# Altium footprint library PCB_ActiveLED.PcbLib: 16 footprints
Each footprint in its own frame and in the unit in brackets; x right, y up, seen from the top. Pads: shape width x height; smd on the part's side, far side on the other; paste and mask are expansions set on the pad; w line width, h text height; cw(c..) or ccw(c..) is an arc to the next point about the centre after c.
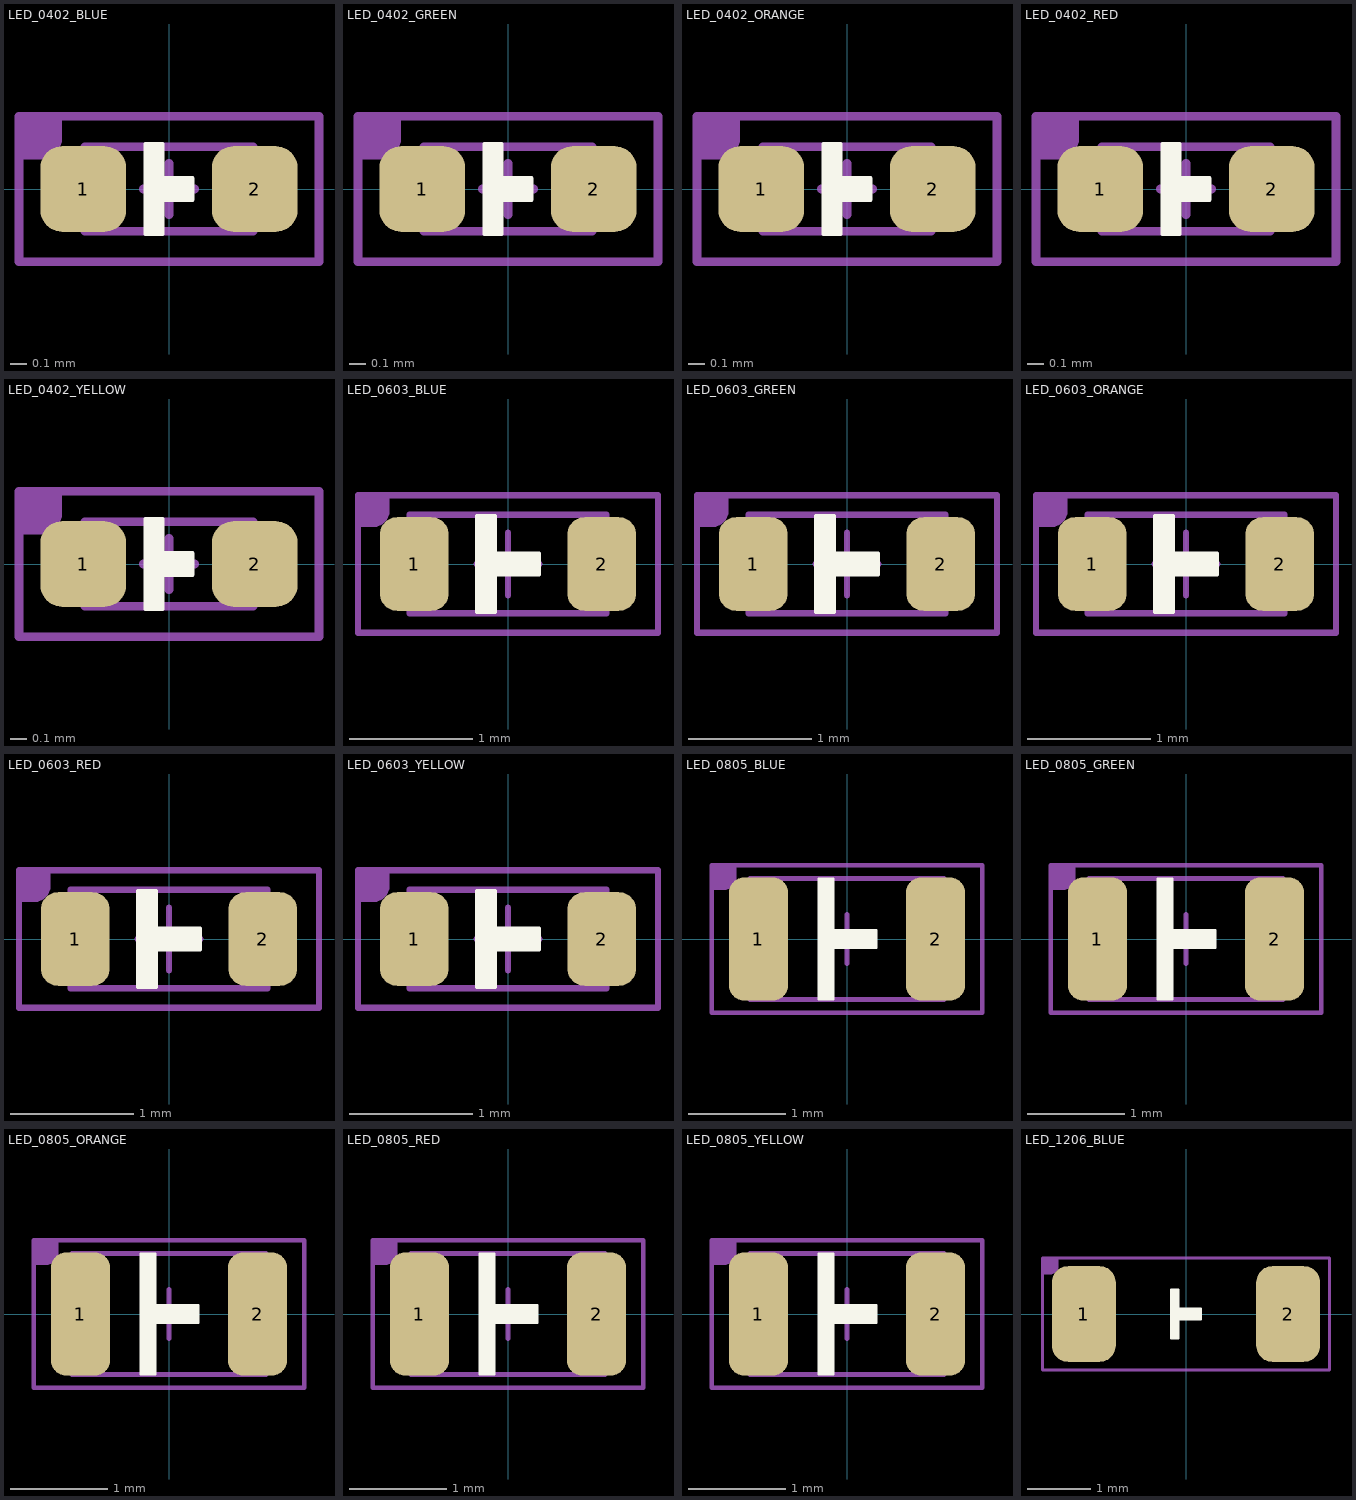
[diagram p0: the footprints below, top view; thin cyan lines are the x and y axes]

## LED_0402_BLUE [mil]
height 31.5
pads (2):
  rrect50% 20x20 smd: 1(-20,0) 2(20,0)
Top Overlay:
  region: -5.5,10.5 -1.5,10.5 -1.5,2.5 5.5,2.5 5.5,-2.5 -1.5,-2.5 -1.5,-10.5 -5.5,-10.5
  lines w1: -5.5,-10.5 -1.5,-10.5 -1.5,-2.5 5.5,-2.5 5.5,2.5 -1.5,2.5 -1.5,10.5 -5.5,10.5 -5.5,-10.5
Mechanical 13:
  lines w2: -6,0 6,0 ; 0,-6 0,6 ; -19.69,-9.84 -19.69,9.84 19.68,9.84 19.68,-9.84 -19.69,-9.84
Mechanical 14:
  region: -35,17 -25,17 -25,12 -25,11.01 -25.76,9.17 -27.17,7.76 -29.01,7 -30,7 -35,7
  lines w2: -35,-17 35,-17 35,17 -35,17 -35,-17
  text ".Designator" at -25,-10 h20
3D body "User Library-led_0402LED0402 blue_.STEP": height 17.72, standoff 0, extent -19.88,-9.84 19.88,9.85

## LED_0402_GREEN [mil]
height 31.5
pads (2):
  rrect50% 20x20 smd: 1(-20,0) 2(20,0)
Top Overlay:
  region: -5.5,10.5 -1.5,10.5 -1.5,2.5 5.5,2.5 5.5,-2.5 -1.5,-2.5 -1.5,-10.5 -5.5,-10.5
  lines w1: -5.5,-10.5 -5.5,10.5 -1.5,10.5 -1.5,2.5 5.5,2.5 5.5,-2.5 -1.5,-2.5 -1.5,-10.5 -5.5,-10.5
Mechanical 13:
  lines w2: -6,0 6,0 ; 0,-6 0,6 ; -19.69,-9.84 19.68,-9.84 19.68,9.84 -19.69,9.84 -19.69,-9.84
Mechanical 14:
  region: -35,17 -25,17 -25,12 -25,11.01 -25.76,9.17 -27.17,7.76 -29.01,7 -30,7 -35,7
  lines w2: -35,-17 35,-17 35,17 -35,17 -35,-17
  text ".Designator" at -25,-10 h20
3D body "User Library-led_0402LED0402 green_.STEP": height 17.72, standoff 0, extent -19.88,-9.84 19.88,9.85

## LED_0402_ORANGE [mil]
height 31.5
pads (2):
  rrect50% 20x20 smd: 1(-20,0) 2(20,0)
Top Overlay:
  region: -5.5,10.5 -1.5,10.5 -1.5,2.5 5.5,2.5 5.5,-2.5 -1.5,-2.5 -1.5,-10.5 -5.5,-10.5
  lines w1: -5.5,-10.5 -5.5,10.5 -1.5,10.5 -1.5,2.5 5.5,2.5 5.5,-2.5 -1.5,-2.5 -1.5,-10.5 -5.5,-10.5
Mechanical 13:
  lines w2: -6,0 6,0 ; 0,-6 0,6 ; -19.69,-9.84 19.68,-9.84 19.68,9.84 -19.69,9.84 -19.69,-9.84
Mechanical 14:
  region: -35,17 -25,17 -25,12 -25,11.01 -25.76,9.17 -27.17,7.76 -29.01,7 -30,7 -35,7
  lines w2: -35,-17 35,-17 35,17 -35,17 -35,-17
  text ".Designator" at -25,-10 h20
3D body "User Library-led_0402LED0402 orange_.STEP": height 17.72, standoff 0, extent -19.88,-9.84 19.88,9.85

## LED_0402_RED [mil]
height 31.5
pads (2):
  rrect50% 20x20 smd: 1(-20,0) 2(20,0)
Top Overlay:
  region: -5.5,10.5 -1.5,10.5 -1.5,2.5 5.5,2.5 5.5,-2.5 -1.5,-2.5 -1.5,-10.5 -5.5,-10.5
  lines w1: -5.5,-10.5 -5.5,10.5 -1.5,10.5 -1.5,2.5 5.5,2.5 5.5,-2.5 -1.5,-2.5 -1.5,-10.5 -5.5,-10.5
Mechanical 13:
  lines w2: -6,0 6,0 ; 0,-6 0,6 ; -19.69,-9.84 19.68,-9.84 19.68,9.84 -19.69,9.84 -19.69,-9.84
Mechanical 14:
  region: -35,17 -25,17 -25,12 -25,11.01 -25.76,9.17 -27.17,7.76 -29.01,7 -30,7 -35,7
  lines w2: -35,-17 35,-17 35,17 -35,17 -35,-17
  text ".Designator" at -25,-10 h20
3D body "User Library-led_0402LED0402 red_.STEP": height 17.72, standoff 0, extent -19.88,-9.84 19.89,9.85

## LED_0402_YELLOW [mil]
height 31.5
pads (2):
  rrect50% 20x20 smd: 1(-20,0) 2(20,0)
Top Overlay:
  region: -5.5,10.5 -1.5,10.5 -1.5,2.5 5.5,2.5 5.5,-2.5 -1.5,-2.5 -1.5,-10.5 -5.5,-10.5
  lines w1: -5.5,-10.5 -5.5,10.5 -1.5,10.5 -1.5,2.5 5.5,2.5 5.5,-2.5 -1.5,-2.5 -1.5,-10.5 -5.5,-10.5
Mechanical 13:
  lines w2: -6,0 6,0 ; 0,-6 0,6 ; -19.69,-9.84 19.68,-9.84 19.68,9.84 -19.69,9.84 -19.69,-9.84
Mechanical 14:
  region: -35,17 -25,17 -25,12 -25,11.01 -25.76,9.17 -27.17,7.76 -29.01,7 -30,7 -35,7
  lines w2: -35,-17 -35,17 35,17 35,-17 -35,-17
  text ".Designator" at -25,-10 h20
3D body "User Library-led_0402LED0402 yellow_.STEP": height 17.72, standoff 0, extent -19.88,-9.84 19.89,9.85

## LED_0603_BLUE [mil]
height 31.5
pads (2):
  rrect50% 22x30 smd: 1(-30,0) 2(30,0)
Top Overlay:
  region: -10,15.5 -4,15.5 -4,3.5 10,3.5 10,-3.5 -4,-3.5 -4,-15.5 -10,-15.5
  lines w1: -10,-15.5 -4,-15.5 -4,-3.5 10,-3.5 10,3.5 -4,3.5 -4,15.5 -10,15.5 -10,-15.5
Mechanical 13:
  lines w2: -10,0 10,0 ; 0,-10 0,10 ; -31.5,-15.75 31.5,-15.75 31.5,15.75 -31.5,15.75 -31.5,-15.75
Mechanical 14:
  region: -48,22 -38,22 -38,17 -38,16.01 -38.76,14.17 -40.17,12.76 -42.01,12 -43,12 -48,12
  lines w2: -48,-22 -48,22 48,22 48,-22 -48,-22
  text ".Designator" at -35,-15 h30
3D body "User Library-led_0603LED0603 blue.STEP": height 23.62, standoff 0, extent -31.89,-15.74 31.89,15.75

## LED_0603_GREEN [mil]
height 31.5
pads (2):
  rrect50% 22x30 smd: 1(-30,0) 2(30,0)
Top Overlay:
  region: -10,15.5 -4,15.5 -4,3.5 10,3.5 10,-3.5 -4,-3.5 -4,-15.5 -10,-15.5
  lines w1: -10,-15.5 -10,15.5 -4,15.5 -4,3.5 10,3.5 10,-3.5 -4,-3.5 -4,-15.5 -10,-15.5
Mechanical 13:
  lines w2: -10,0 10,0 ; 0,-10 0,10 ; -31.5,-15.75 -31.5,15.75 31.5,15.75 31.5,-15.75 -31.5,-15.75
Mechanical 14:
  region: -48,22 -38,22 -38,17 -38,16.01 -38.76,14.17 -40.17,12.76 -42.01,12 -43,12 -48,12
  lines w2: -48,-22 48,-22 48,22 -48,22 -48,-22
  text ".Designator" at -35,-15 h30
3D body "User Library-led_0603LED0603 green.STEP": height 23.62, standoff 0, extent -31.89,-15.74 31.89,15.75

## LED_0603_ORANGE [mil]
height 31.5
pads (2):
  rrect50% 22x30 smd: 1(-30,0) 2(30,0)
Top Overlay:
  region: -10,15.5 -4,15.5 -4,3.5 10,3.5 10,-3.5 -4,-3.5 -4,-15.5 -10,-15.5
  lines w1: -10,-15.5 -4,-15.5 -4,-3.5 10,-3.5 10,3.5 -4,3.5 -4,15.5 -10,15.5 -10,-15.5
Mechanical 13:
  lines w2: -10,0 10,0 ; 0,-10 0,10 ; -31.5,-15.75 -31.5,15.75 31.5,15.75 31.5,-15.75 -31.5,-15.75
Mechanical 14:
  region: -48,22 -38,22 -38,17 -38,16.01 -38.76,14.17 -40.17,12.76 -42.01,12 -43,12 -48,12
  lines w2: -48,-22 48,-22 48,22 -48,22 -48,-22
  text ".Designator" at -35,-15 h30
3D body "User Library-led_0603LED0603 orange_.STEP": height 23.62, standoff 0, extent -31.89,-15.74 31.89,15.75

## LED_0603_RED [mil]
height 31.5
pads (2):
  rrect50% 22x30 smd: 1(-30,0) 2(30,0)
Top Overlay:
  region: -10,15.5 -4,15.5 -4,3.5 10,3.5 10,-3.5 -4,-3.5 -4,-15.5 -10,-15.5
  lines w1: -10,-15.5 -10,15.5 -4,15.5 -4,3.5 10,3.5 10,-3.5 -4,-3.5 -4,-15.5 -10,-15.5
Mechanical 13:
  lines w2: -10,0 10,0 ; 0,-10 0,10 ; -31.5,-15.75 31.5,-15.75 31.5,15.75 -31.5,15.75 -31.5,-15.75
Mechanical 14:
  region: -48,22 -38,22 -38,17 -38,16.01 -38.76,14.17 -40.17,12.76 -42.01,12 -43,12 -48,12
  lines w2: -48,-22 -48,22 48,22 48,-22 -48,-22
  text ".Designator" at -35,-15 h30
3D body "User Library-led_0603LED0603 red.STEP": height 23.62, standoff 0, extent -31.89,-15.74 31.89,15.75

## LED_0603_YELLOW [mil]
height 31.5
pads (2):
  rrect50% 22x30 smd: 1(-30,0) 2(30,0)
Top Overlay:
  region: -10,15.5 -4,15.5 -4,3.5 10,3.5 10,-3.5 -4,-3.5 -4,-15.5 -10,-15.5
  lines w1: -10,-15.5 -10,15.5 -4,15.5 -4,3.5 10,3.5 10,-3.5 -4,-3.5 -4,-15.5 -10,-15.5
Mechanical 13:
  lines w2: -10,0 10,0 ; 0,-10 0,10 ; -31.5,-15.75 -31.5,15.75 31.5,15.75 31.5,-15.75 -31.5,-15.75
Mechanical 14:
  region: -48,22 -38,22 -38,17 -38,16.01 -38.76,14.17 -40.17,12.76 -42.01,12 -43,12 -48,12
  lines w2: -48,-22 -48,22 48,22 48,-22 -48,-22
  text ".Designator" at -35,-15 h30
3D body "User Library-led_0603LED0603 yellow_.STEP": height 23.62, standoff 0, extent -31.89,-15.74 31.89,15.75

## LED_0805_BLUE [mil]
height 47.24
pads (2):
  rrect50% 24x50 smd: 1(-36,0) 2(36,0)
Top Overlay:
  region: -11.5,24.5 -5.5,24.5 -5.5,3.5 12,3.5 12,-3.5 -5.5,-3.5 -5.5,-24.5 -11.5,-24.5
  lines w1: -11.5,-24.5 -5.5,-24.5 -5.5,-3.5 12,-3.5 12,3.5 -5.5,3.5 -5.5,24.5 -11.5,24.5 -11.5,-24.5
Mechanical 13:
  lines w2: -10,0 10,0 ; 0,-10 0,10 ; -39.37,-24.61 -39.37,24.61 39.37,24.61 39.37,-24.61 -39.37,-24.61
Mechanical 14:
  region: -55,30 -45,30 -45,25 -45,24.01 -45.76,22.17 -47.17,20.76 -49.01,20 -50,20 -55,20
  lines w2: -55,-30 55,-30 55,30 -55,30 -55,-30
  text ".Designator" at -45,-20 h35
3D body "User Library-led_0805LED0805_blue.STEP": height 43.31, standoff 0, extent -39.76,-24.6 39.77,24.61

## LED_0805_GREEN [mil]
height 47.24
pads (2):
  rrect50% 24x50 smd: 1(-36,0) 2(36,0)
Top Overlay:
  region: -11.5,24.5 -5.5,24.5 -5.5,3.5 12,3.5 12,-3.5 -5.5,-3.5 -5.5,-24.5 -11.5,-24.5
  lines w1: -11.5,-24.5 -5.5,-24.5 -5.5,-3.5 12,-3.5 12,3.5 -5.5,3.5 -5.5,24.5 -11.5,24.5 -11.5,-24.5
Mechanical 13:
  lines w2: -10,0 10,0 ; 0,-10 0,10 ; -39.37,-24.61 -39.37,24.61 39.37,24.61 39.37,-24.61 -39.37,-24.61
Mechanical 14:
  region: -55,30 -45,30 -45,25 -45,24.01 -45.76,22.17 -47.17,20.76 -49.01,20 -50,20 -55,20
  lines w2: -55,-30 55,-30 55,30 -55,30 -55,-30
  text ".Designator" at -45,-20 h35
3D body "User Library-led_0805LED0805_green.STEP": height 43.31, standoff 0, extent -39.76,-24.6 39.77,24.61

## LED_0805_ORANGE [mil]
height 47.24
pads (2):
  rrect50% 24x50 smd: 1(-36,0) 2(36,0)
Top Overlay:
  region: -11.5,24.5 -5.5,24.5 -5.5,3.5 12,3.5 12,-3.5 -5.5,-3.5 -5.5,-24.5 -11.5,-24.5
  lines w1: -11.5,-24.5 -11.5,24.5 -5.5,24.5 -5.5,3.5 12,3.5 12,-3.5 -5.5,-3.5 -5.5,-24.5 -11.5,-24.5
Mechanical 13:
  lines w2: -10,0 10,0 ; 0,-10 0,10 ; -39.37,-24.61 39.37,-24.61 39.37,24.61 -39.37,24.61 -39.37,-24.61
Mechanical 14:
  region: -55,30 -45,30 -45,25 -45,24.01 -45.76,22.17 -47.17,20.76 -49.01,20 -50,20 -55,20
  lines w2: -55,-30 -55,30 55,30 55,-30 -55,-30
  text ".Designator" at -45,-20 h35
3D body "User Library-led_0805LED0805_orange.STEP": height 43.31, standoff 0, extent -39.76,-24.6 39.77,24.61

## LED_0805_RED [mil]
height 47.24
pads (2):
  rrect50% 24x50 smd: 1(-36,0) 2(36,0)
Top Overlay:
  region: -11.5,24.5 -5.5,24.5 -5.5,3.5 12,3.5 12,-3.5 -5.5,-3.5 -5.5,-24.5 -11.5,-24.5
  lines w1: -11.5,-24.5 -11.5,24.5 -5.5,24.5 -5.5,3.5 12,3.5 12,-3.5 -5.5,-3.5 -5.5,-24.5 -11.5,-24.5
Mechanical 13:
  lines w2: -10,0 10,0 ; 0,-10 0,10 ; -39.37,-24.61 39.37,-24.61 39.37,24.61 -39.37,24.61 -39.37,-24.61
Mechanical 14:
  region: -55,30 -45,30 -45,25 -45,24.01 -45.76,22.17 -47.17,20.76 -49.01,20 -50,20 -55,20
  lines w2: -55,-30 -55,30 55,30 55,-30 -55,-30
  text ".Designator" at -45,-20 h35
3D body "User Library-led_0805LED0805_red.STEP": height 43.31, standoff 0, extent -39.76,-24.6 39.77,24.61

## LED_0805_YELLOW [mil]
height 47.24
pads (2):
  rrect50% 24x50 smd: 1(-36,0) 2(36,0)
Top Overlay:
  region: -11.5,24.5 -5.5,24.5 -5.5,3.5 12,3.5 12,-3.5 -5.5,-3.5 -5.5,-24.5 -11.5,-24.5
  lines w1: -11.5,-24.5 -11.5,24.5 -5.5,24.5 -5.5,3.5 12,3.5 12,-3.5 -5.5,-3.5 -5.5,-24.5 -11.5,-24.5
Mechanical 13:
  lines w2: -10,0 10,0 ; 0,-10 0,10 ; -39.37,-24.61 39.37,-24.61 39.37,24.61 -39.37,24.61 -39.37,-24.61
Mechanical 14:
  region: -55,30 -45,30 -45,25 -45,24.01 -45.76,22.17 -47.17,20.76 -49.01,20 -50,20 -55,20
  lines w2: -55,-30 -55,30 55,30 55,-30 -55,-30
  text ".Designator" at -45,-20 h35
3D body "User Library-led_0805LED0805_yellow.STEP": height 43.31, standoff 0, extent -39.76,-24.6 39.77,24.61

## LED_1206_BLUE [mil]
height 47.24
pads (2):
  rrect50% 40x60 smd: 1(-64,0) 2(64,0)
Top Overlay:
  region: -9.5,15.5 -4.5,15.5 -4.5,3.5 9.5,3.5 9.5,-3.5 -4.5,-3.5 -4.5,-15.5 -9.5,-15.5
  lines w1: -9.5,-15.5 -9.5,15.5 -4.5,15.5 -4.5,3.5 9.5,3.5 9.5,-3.5 -4.5,-3.5 -4.5,-15.5 -9.5,-15.5
Mechanical 14:
  region: -90,35 -80,35 -80,30 -80,29.01 -80.76,27.17 -82.17,25.76 -84.01,25 -85,25 -90,25
  lines w2: -90,-35 90,-35 90,35 -90,35 -90,-35
3D body "User Library-led_1206LED1206 blue.STEP": height 43.31, standoff 0, extent -63.39,-31.5 63.38,31.5